# EAGLE library part EI38-2 (library group10)
TRANSFORMER 1 primary winding, 2 secondary windings ERA
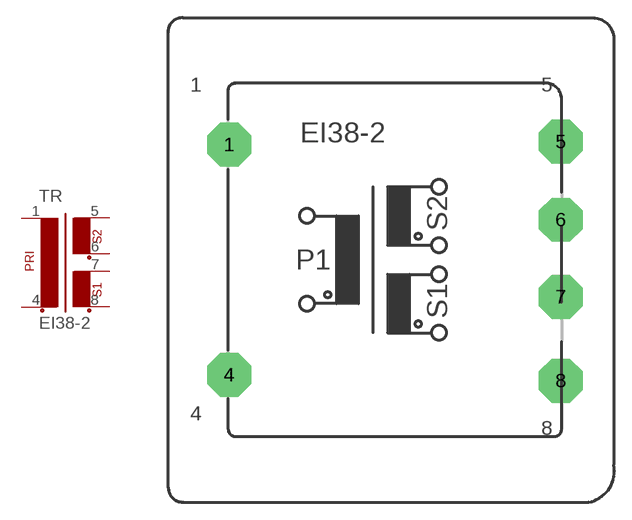
[diagram p3: symbol with the pads of EI38-2; footprint EI38-2]

Designator prefix TR

## EI38-2  [EI38-2]
1  1  pas
4  4  pas
5  5  pas
6  6  pas
7  7  pas
8  8  pas

## Footprint EI38-2 (pad centres in mm)
TRANSFORMER 1 primary winding, 2 secondary windings
drill 1.118 pad 3.81 octagon: 1 -12.497,10.008; 4 -12.497,-10.008; 5 16.307,10.262; 6 16.307,3.48; 7 16.307,-3.226; 8 16.307,-10.516